# EAGLE library part F1958* (library Renesas)
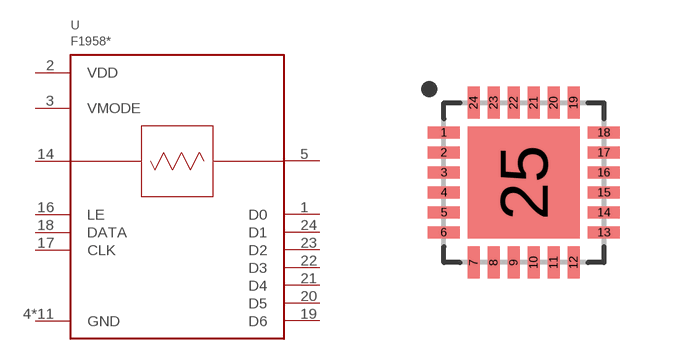
[diagram p6: symbol with the pads of QFN24_2; footprint QFN24_2]

Designator prefix U

## F1958NBGK  [QFN24_2]
1  D0
2  VDD
3  VMODE
4  GND
5  RF1
6  GND
7  GND
8  GND
9  GND
10  GND
11  GND
12  GND
13  GND
14  RF2
15  GND
16  LE
17  CLK
18  DATA
19  D6
20  D5
21  D4
22  D3
23  D2
24  D1
25  GND

## Footprint QFN24_2 (pad centres in mm)
smd 0.8 x 0.3: 1 -2,1.25; 2 -2,0.75; 3 -2,0.25; 4 -2,-0.25; 5 -2,-0.75; 6 -2,-1.25; 13 2,-1.25; 14 2,-0.75; 15 2,-0.25; 16 2,0.25; 17 2,0.75; 18 2,1.25
smd 0.3 x 0.8: 7 -1.25,-2; 8 -0.75,-2; 9 -0.25,-2; 10 0.25,-2; 11 0.75,-2; 12 1.25,-2; 19 1.25,2; 20 0.75,2; 21 0.25,2; 22 -0.25,2; 23 -0.75,2; 24 -1.25,2
smd 2.8 x 2.8: 25 0,0